# EAGLE library part MCP2515 (library FaBo-CAN)
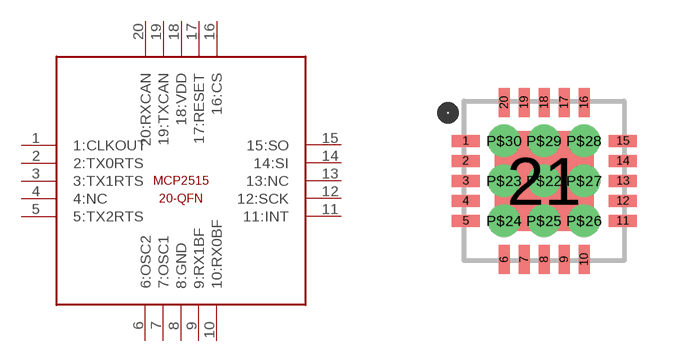
[diagram p1: symbol with the pads of VQFN; footprint VQFN]

Designator prefix -

## MCP2515  [VQFN]
1  1:CLKOUT
2  2:TX0RTS
3  3:TX1RTS
4  4:NC
5  5:TX2RTS
6  6:OSC2
7  7:OSC1
8  8:GND
9  9:RX1BF
10  10:RX0BF
11  11:INT
12  12:SCK
13  13:NC
14  14:SI
15  15:SO
16  16:CS
17  17:RESET
18  18:VDD
19  19:TXCAN
20  20:RXCAN

## Footprint VQFN (pad centres in mm)
smd 0.73 x 0.3: 1 -1.965,1; 2 -1.965,0.5; 3 -1.965,0; 4 -1.965,-0.5; 5 -1.965,-1; 11 1.965,-1; 12 1.965,-0.5; 13 1.965,0; 14 1.965,0.5; 15 1.965,1
smd 0.3 x 0.73: 6 -1,-1.965; 7 -0.5,-1.965; 8 0,-1.965; 9 0.5,-1.965; 10 1,-1.965; 16 1,1.965; 17 0.5,1.965; 18 0,1.965; 19 -0.5,1.965; 20 -1,1.965
smd 2.5 x 2.5: 21 0,0
drill 0.3 pad 0.406: P$22 0,0; P$23 -1,0; P$24 -1,-1; P$25 0,-1; P$26 1,-1; P$27 1,0; P$28 1,1; P$29 0,1; P$30 -1,1